# Altium schematic symbol library libba.SchLib: 2 symbols
Pins are listed as number, name and electrical type; pins without a type are passive.

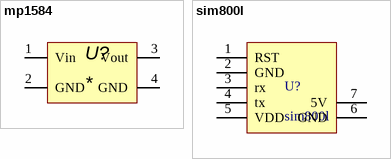
[diagram p0: symbols mp1584 to sim800l]

## mp1584
designator U?
footprint dcdc 12 - 5 (mp1584)
pins: 1 Vin, 2 GND, 3 Vout, 4 GND

## sim800l
designator U?
footprint PCBComponent_1
pins: 1 RST, 2 GND, 3 rx, 4 tx, 5 VDD, 6 GND, 7 5V